# Altium schematic symbol library testpoint.SchLib: 1 symbol
Pins are listed as number, name and electrical type; pins without a type are passive.

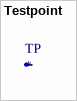
[diagram p0: symbol Testpoint]

## Testpoint
designator TP
footprint Testpoint1,2mm
pins: 1